# EAGLE library part WE-RJ45_10G_7499611423 (library Wurth_Signal & Communications_WE-RJ45_10G)
WE-RJ45 10G Transformer Characteristics RJ45 Connector with integrated transformer / common mode choke Power over Ethernet up to 50 Watt and speeds up to 10 Gbit/s Available in SMD, THT and THT with USB Compliant with standards: IEEE 802.3u, IEEE 802.3ab, IEEE 802.3af, IEEE 802.3at, IEEE 802.3an and upcoming IEE 802.3bt Applications Suitable for industrial temperatures from –40 °C up to +85 °C Compatible to Industrial Ethernet systems like EtherCAT or Profinet Compliant with most IC’s for Ethernet applications such as Microchip, Texas Instruments, Broadcom, Linear Technology Hubs, Routers, Switches, IP cameras, IoT applications <https://www.we-online.com/catalog/media/o122818v209%20Family_WE-RJ45LAN_10G_7499611420_a.jpg> Details see: https://www.we-online.com/catalog/en/WE-LAN-RJ45-10G Create By Ella Wu 2020-10-26 2020 (C) Wurth Elektronik
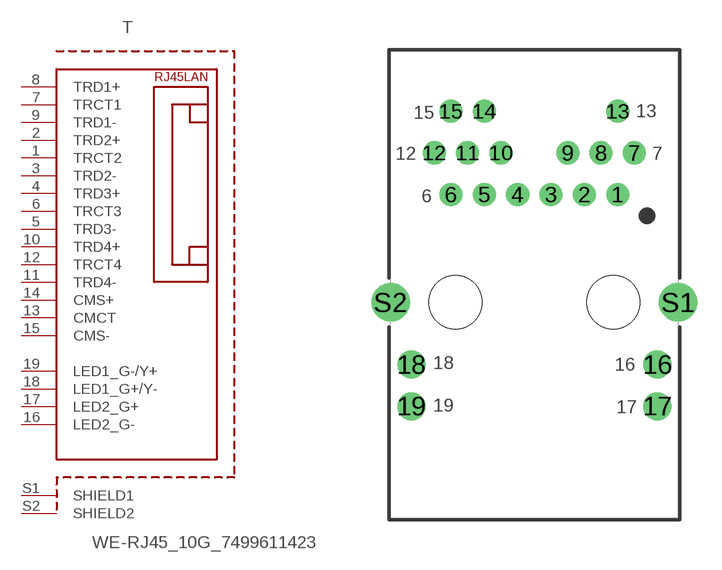
[diagram p2: symbol with the pads of 7499611423; footprint 7499611423]

Designator prefix T

## WE-RJ45_10G_7499611423 (DATA-RATE: 10G Base-T; DATASHEET-URL: https://www.we-online.com/catalog/datasheet/7499611423.pdf; L: 160uH; LED: yellow-green; MOUNT: THT; PART-NUMBER: 7499611423; POE: non-PoE; PORTS: 1; USB: No; VALUE: 7499611423)  [7499611423]
1  TRCT2
2  TRD2+
3  TRD2-
4  TRD3+
5  TRD3-
6  TRCT3
7  TRCT1
8  TRD1+
9  TRD1-
10  TRD4+
11  TRD4-
12  TRCT4
13  CMCT
14  CMS+
15  CMS-
16  LED2_G-
17  LED2_G+
18  LED1_G+/Y-
19  LED1_G-/Y+
S1  SHIELD1  pwr
S2  SHIELD2  pwr

## Footprint 7499611423 (pad centres in mm)
WE-RJ45 10G Transformer 10G Base-T MAX HEIGHT=11.92mm
drill 0.9: 1 5.1,6.6; 2 3.06,6.6; 3 1.02,6.6; 4 -1.02,6.6; 5 -3.06,6.6; 6 -5.1,6.6; 7 6.12,9.14; 8 4.08,9.14; 9 2.04,9.14; 10 -2.04,9.14; 11 -4.08,9.14; 12 -6.12,9.14; 13 5.1,11.68; 14 -3.06,11.68; 15 -5.1,11.68
drill 1.14: 16 7.52,-3.81; 17 7.52,-6.35; 18 -7.52,-3.81; 19 -7.52,-6.35
drill 1.57: S1 8.79,0; S2 -8.79,0
hole 3.25 at -4.825,0
hole 3.25 at 4.825,0